# Altium schematic symbol library esp32-jc3248W535.SchLib: 1 symbol
Pins are listed as number, name and electrical type; pins without a type are passive.

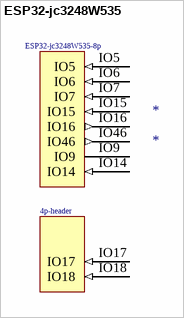
[diagram p0: symbol ESP32-jc3248W535]

## ESP32-jc3248W535
designator *
pins: IO5 (in), IO6 (in), IO7 (in), IO9, IO14 (in), IO15 (in), IO16 (out), IO17 (in), IO18 (in), IO46 (out)
text: ESP32-jc3248W535-8p; 4p-header